# Altium footprint library TO-277.PcbLib: 1 footprints
Each footprint in its own frame and in the unit in brackets; x right, y up, seen from the top. Pads: shape width x height; smd on the part's side, far side on the other; paste and mask are expansions set on the pad; w line width, h text height; cw(c..) or ccw(c..) is an arc to the next point about the centre after c.
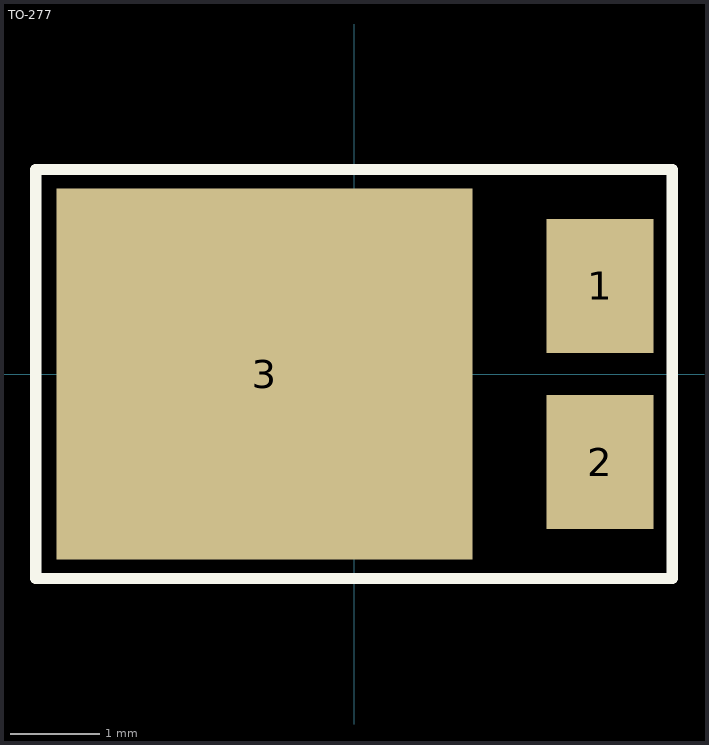
[diagram p0: the footprint, top view; thin cyan lines are the x and y axes]

## TO-277 [mm]
pads (3):
  rect 1.2x1.5 smd: 1(2.75,0.985) 2(2.75,-0.985)
  rect 4.65x4.15 smd: 3(-1,0)
Top Overlay:
  lines w0.127: -3.556,-2.286 -3.556,2.286 3.556,2.286 3.556,-2.286 -3.556,-2.286
3D body "step_temp.STEP": height 1.2, standoff 0, extent -3.25,-2.22 3.25,2.22